# EAGLE library part XTR104P (library burr-brown)
4-20mA Current Transmitter with Bridge Excitation And Linearization
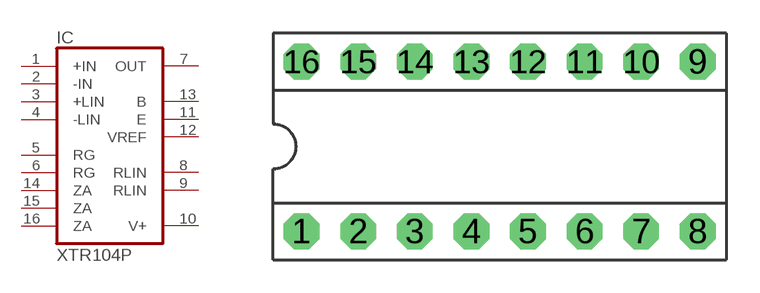
[diagram p209: symbol with the pads of DIP-16; footprint DIP-16]

Designator prefix IC

## XTR104P  [DIP-16]
1  +IN  in
2  -IN  in
3  +LIN  in
4  -LIN  in
5  RG  pas
6  RG  pas
7  OUT  out
8  RLIN  pas
9  RLIN  pas
10  V+  pwr
11  E  out
12  VREF  out
13  B  out
14  ZA  pas
15  ZA  pas
16  ZA  pas

## Footprint DIP-16 (pad centres in mm)
drill 0.813 pad 1.6 octagon: 1 -8.89,-3.81; 2 -6.35,-3.81; 3 -3.81,-3.81; 4 -1.27,-3.81; 5 1.27,-3.81; 6 3.81,-3.81; 7 6.35,-3.81; 8 8.89,-3.81; 9 8.89,3.81; 10 6.35,3.81; 11 3.81,3.81; 12 1.27,3.81; 13 -1.27,3.81; 14 -3.81,3.81; 15 -6.35,3.81; 16 -8.89,3.81